# Altium schematic symbol library ABS07-32.768KHZ-9-T.SchLib: 1 symbol
Pins are listed as number, name and electrical type; pins without a type are passive.

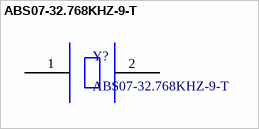
[diagram p0: symbol ABS07-32.768KHZ-9-T]

## ABS07-32.768KHZ-9-T
designator Y?
32.768 kHz Crystal, Abracon LLC
footprint ABS07-32.768KHZ-9-T_HS
pins: 1, 2